# Altium schematic symbol library BH800S.SchLib: 1 symbol
Pins are listed as number, name and electrical type; pins without a type are passive.

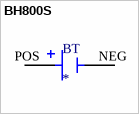
[diagram p0: symbol BH800S]

## BH800S
designator BT
Battery Holder _Open_ Coin, 20.0mm 2 Cell PC Pin; MP: BH800S; MF: MPD; Package: None; SnapEDA_Link: https://www.snapeda.com/parts/BH800S/MPD/view-part/4480544/?ref=snap; Digi-Key_Purchase_URL: https://www.digikey.com/product-detail/en/mpd-memory-protection-devices/BH800S/BH800S-ND/221549?utm_source=snapeda&utm_medium=aggregator&utm_campaign=symbol; Value: *; Digi-Key_Part_Number: BH800S-ND
footprint BAT_BH800S
pins: NEG, POS